# Altium footprint library 智能车驱动板DRV8701E元件库PcbLib.PcbLib: 3 footprints
Each footprint in its own frame and in the unit in brackets; x right, y up, seen from the top. Pads: shape width x height; smd on the part's side, far side on the other; paste and mask are expansions set on the pad; w line width, h text height; cw(c..) or ccw(c..) is an arc to the next point about the centre after c.
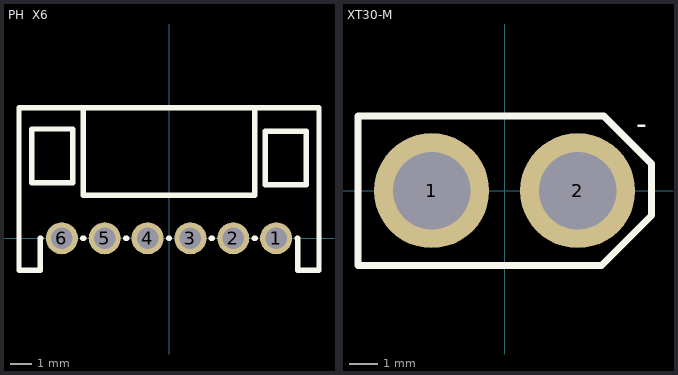
[diagram p0: the footprints below, top view; thin cyan lines are the x and y axes]

## PCBComponent_1 [mm]

## PH  X6 [mm]
pads (6):
  round 1.5 hole 1: 1(5,0) 2(3,0) 3(1,0) 4(-1,0) 5(-3,0) 6(-5,0)
Top Overlay:
  lines w0.254: -7,-1.5 -6,-1.5 -6,0 -5.981,0 ; -7,6.101 6.999,6.101 ; -6.999,-1.501 -6.999,6.101 ; -4.019,0 -3.981,0 ; -4,1.999 3.999,1.999 3.999,6 ; -3.999,1.999 -3.999,6 ; -2.019,0 -1.981,0 ; -0.019,0 0.019,0 ; 1.981,0 2.019,0 ; 3.981,0 4.019,0 ; 5.981,0 6,0 6,-1.5 7,-1.5 7,6.1 ; -6.4,2.6 -6.4,5.1 -4.5,5.1 -4.5,2.6 -6.4,2.6 ; 4.5,2.5 4.5,5 6.4,5 6.4,2.5 4.5,2.5

## XT30-M [mm]
height 24
pads (2):
  round 4 hole 2.7: 1(-2.54,0) 2(2.54,0)
Top Overlay:
  lines w0.254: 3.454,2.6 -5.1,2.6 -5.1,-2.6 3.369,-2.6 5.105,-0.864 5.105,0.94 3.511,2.535
  text "-" at 4.572,1.956 h0.76
Bottom Overlay:
  text "+" at -4.88,-2.775 h0.51
  text "-" at 5.08,1.956 h0.76
3D body "XT30u-m.STEP": height 10.66, standoff -3.04, extent -5.1,-2.8 5.1,2.8